# Altium footprint library port.PcbLib: 36 footprints (part 2 of 3)
Each footprint in its own frame and in the unit in brackets; x right, y up, seen from the top. Pads: shape width x height; smd on the part's side, far side on the other; paste and mask are expansions set on the pad; w line width, h text height; cw(c..) or ccw(c..) is an arc to the next point about the centre after c.
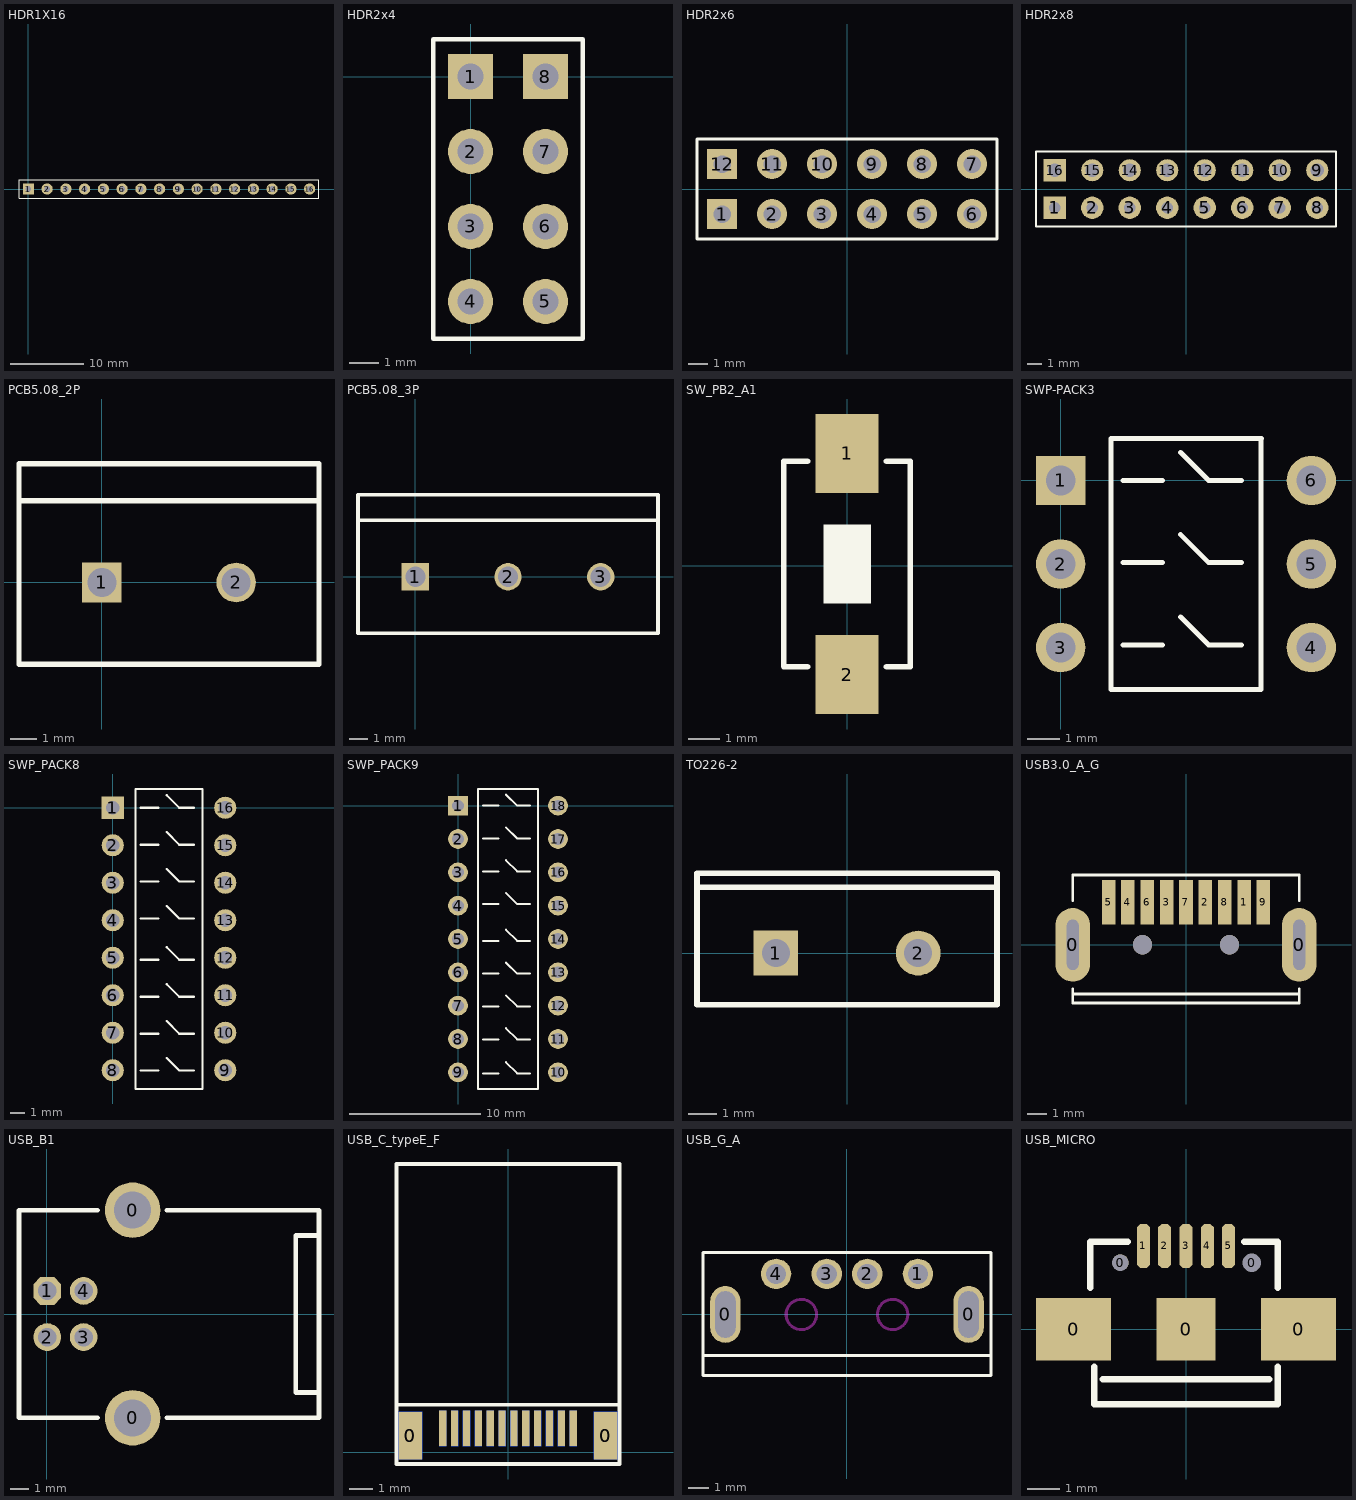
[diagram p1: the footprints below, top view; thin cyan lines are the x and y axes]

## HDR1X16 [mil]
pads (16):
  rect 60x60 hole 30: 1(0,0)
  round 60 hole 30: 2(100,0) 3(200,0) 4(300,0) 5(400,0) 6(500,0) 7(600,0) 8(700,0) 9(800,0) 10(900,0) 11(1000,0) 12(1100,0) 13(1200,0) 14(1300,0) 15(1400,0) 16(1500,0)
Top Overlay:
  lines w6: -50,-50 1550,-50 1550,50 -50,50 -50,-50

## HDR2x4 [mil] "排针单排4针 双列"
pads (8):
  rect 60x60 hole 35: 1(0,0) 8(100,0)
  round 60 hole 35: 2(0,-100) 3(0,-200) 4(0,-300) 5(100,-300) 6(100,-200) 7(100,-100)
Top Overlay:
  lines w6: -50,-350 150,-350 150,50 -50,50 -50,-350

## HDR2x6 [mil] "排针单排6针 双列"
pads (12):
  rect 60x60 hole 35: 1(-250,-50) 12(-250,50)
  round 60 hole 35: 2(-150,-50) 3(-50,-50) 4(50,-50) 5(150,-50) 6(250,-50) 7(250,50) 8(150,50) 9(50,50) 10(-50,50) 11(-150,50)
Top Overlay:
  lines w6: -300,-100 300,-100 300,100 -300,100 -300,-100

## HDR2x8 [mm] "排针单排8针 双列"
pads (16):
  rect 1.524x1.524 hole 0.762: 1(-8.89,-1.27)
  round 1.524 hole 0.762: 2(-6.35,-1.27) 3(-3.81,-1.27) 4(-1.27,-1.27) 5(1.27,-1.27) 6(3.81,-1.27) 7(6.35,-1.27) 8(8.89,-1.27)
  round 1.5 hole 0.9: 9(8.89,1.27) 10(6.35,1.27) 11(3.81,1.27) 12(1.27,1.27) 13(-1.27,1.27) 14(-3.81,1.27) 15(-6.35,1.27)
  rect 1.5x1.5 hole 0.9: 16(-8.89,1.27)
Top Overlay:
  lines w0.152: -10.16,-2.54 -10.16,2.54 10.16,2.54 10.16,-2.54 -10.16,-2.54

## PCB5.08_2P [mm] "Connector; Header; 2 Position"
height 10
pads (2):
  rect 1.5x1.5 hole 1.1: 1(0,0)
  round 1.5 hole 1.1: 2(5.08,0)
Top Overlay:
  lines w0.2: -3.14,3.1 8.22,3.1 ; -3.14,-3.1 8.22,-3.1 8.22,4.5 -3.14,4.5 -3.14,-3.1

## PCB5.08_3P [mm] "Connector; Header; 3 Position"
height 10
pads (3):
  rect 1.5x1.5 hole 1.1: 1(0,0)
  round 1.5 hole 1.1: 2(5.08,0) 3(10.16,0)
Top Overlay:
  lines w0.2: -3.14,3.1 13.3,3.1 ; -3.14,-3.1 -3.14,4.5 13.3,4.5 13.3,-3.1 -3.14,-3.1

## SW_PB2_A1 [mm]
pads (2):
  rect 2x2.5 smd: 1(0,3.556) 2(0,-3.444)
Top Overlay:
  region: -0.747,1.309 -0.747,-1.191 0.753,-1.191 0.753,1.309
  lines w0.178: -1.25,-3.194 -2,-3.19 -2,3.306 -1.25,3.306 ; 1.25,-3.194 2,-3.194 2,3.306 1.25,3.306
3D body: height 2.5, standoff 0, extent -1.933,-3.945 1.917,3.945

## SWP-PACK3 [mm]
pads (6):
  rect 1.5x1.5 hole 0.9: 1(0,0)
  round 1.5 hole 0.9: 2(0,-2.54) 3(0,-5.08) 4(7.62,-5.08) 5(7.62,-2.54) 6(7.62,0)
Top Overlay:
  lines w0.152: 1.9,-5 3.1,-5 ; 1.9,-2.5 3.1,-2.5 ; 1.9,0 3.1,0 ; 3.65,-4.15 4.5,-5 5.5,-5 ; 3.65,-1.65 4.5,-2.5 5.5,-2.5 ; 3.65,0.85 4.5,0 5.5,0 ; 6.083,1.27 6.083,-6.35 1.537,-6.35 1.537,1.27 6.1,1.27

## SWP_PACK8 [mm]
pads (16):
  rect 1.5x1.5 hole 0.9: 1(0,0)
  round 1.5 hole 0.9: 2(0,-2.54) 3(0,-5.08) 4(0,-7.62) 5(0,-10.16) 6(0,-12.7) 7(0,-15.24) 8(0,-17.78) 9(7.62,-17.78) 10(7.62,-15.24) 11(7.62,-12.7) 12(7.62,-10.16) 13(7.62,-7.62) 14(7.62,-5.08) 15(7.62,-2.54) 16(7.62,0)
Top Overlay:
  lines w0.152: 1.9,-17.8 3.1,-17.8 ; 1.9,-15.3 3.1,-15.3 ; 1.9,-12.8 3.1,-12.8 ; 1.9,-10.3 3.1,-10.3 ; 1.9,-7.5 3.1,-7.5 ; 1.9,-5 3.1,-5 ; 1.9,-2.5 3.1,-2.5 ; 1.9,0 3.1,0 ; 3.65,-16.95 4.5,-17.8 5.5,-17.8 ; 3.65,-14.45 4.5,-15.3 5.5,-15.3 ; 3.65,-11.95 4.5,-12.8 5.5,-12.8 ; 3.65,-9.45 4.5,-10.3 5.5,-10.3 ; 3.65,-6.65 4.5,-7.5 5.5,-7.5 ; 3.65,-4.15 4.5,-5 5.5,-5 ; 3.65,-1.65 4.5,-2.5 5.5,-2.5 ; 3.65,0.85 4.5,0 5.5,0 ; 1.537,-19.05 1.537,1.27 6.083,1.27 6.083,-19.05 1.537,-19.05

## SWP_PACK9 [mm]
pads (18):
  rect 1.5x1.5 hole 0.9: 1(0,0)
  round 1.5 hole 0.9: 2(0,-2.54) 3(0,-5.08) 4(0,-7.62) 5(0,-10.16) 6(0,-12.7) 7(0,-15.24) 8(0,-17.78) 9(0,-20.32) 10(7.62,-20.32) 11(7.62,-17.78) 12(7.62,-15.24) 13(7.62,-12.7) 14(7.62,-10.16) 15(7.62,-7.62) 16(7.62,-5.08) 17(7.62,-2.54) 18(7.62,0)
Top Overlay:
  lines w0.152: 1.9,-20.4 3.1,-20.4 ; 1.9,-17.8 3.1,-17.8 ; 1.9,-15.3 3.1,-15.3 ; 1.9,-12.8 3.1,-12.8 ; 1.9,-10.3 3.1,-10.3 ; 1.9,-7.5 3.1,-7.5 ; 1.9,-5 3.1,-5 ; 1.9,-2.5 3.1,-2.5 ; 1.9,0 3.1,0 ; 3.65,-19.55 4.5,-20.4 5.5,-20.4 ; 3.65,-16.95 4.5,-17.8 5.5,-17.8 ; 3.65,-14.45 4.5,-15.3 5.5,-15.3 ; 3.65,-11.95 4.5,-12.8 5.5,-12.8 ; 3.65,-9.45 4.5,-10.3 5.5,-10.3 ; 3.65,-6.65 4.5,-7.5 5.5,-7.5 ; 3.65,-4.15 4.5,-5 5.5,-5 ; 3.65,-1.65 4.5,-2.5 5.5,-2.5 ; 3.65,0.85 4.5,0 5.5,0 ; 1.537,-21.59 6.083,-21.59 6.083,1.27 1.537,1.27 1.537,-21.59

## TO226-2 [mm] "2 In-Line Leads; Pitch 2.54 mm"
height 19.4
pads (2):
  rect 1.6x1.6 hole 1: 1(-2.54,0)
  round 1.6 hole 1: 2(2.54,0)
Top Overlay:
  lines w0.2: -5.35,2.35 5.35,2.35 ; -5.35,-1.85 5.35,-1.85 5.35,2.85 -5.35,2.85 -5.35,-1.85

## USB3.0_A_G [mm] "USB3.0A公头"
height 5
pads (11):
  oval 1.8x3.8 hole 0.6 slot 2.6 at 90 deg: 0(-5.85,0) 0(5.85,0)
  rect 0.7x2.3 smd: 1(3,2.2) 2(1,2.2) 3(-1,2.2) 4(-3,2.2) 5(-4,2.2) 6(-2,2.2) 7(0,2.2) 8(2,2.2) 9(4,2.2)
via -2.25,0 diameter 1 hole 1
via 2.25,0 diameter 1 hole 1
Top Overlay:
  lines w0.152: -5.85,-2.54 5.842,-2.54 ; -5.85,-2.286 -5.85,-3 5.85,-3 5.85,-2.286 ; -5.85,2.286 -5.85,3.6 5.85,3.6 ; 5.85,2.286 5.85,3.556

## USB_B1 [mil] "USB方孔"
height 314.96
pads (6):
  round 120 hole 80: 0(186.3,-225) 0(186.3,225)
  oct 60x60 hole 40: 1(1.26,50)
  round 60 hole 40: 2(1.26,-50) 3(80,-50) 4(80,50)
Top Overlay:
  lines w10: 110,-225 -60,-225 -60,225 110,225 ; 260,-225 590,-225 590,225 260,225 ; 590,-170 540,-170 540,170 590,170

## USB_C_typeE_F [mm] "USBtypeC公头"
pads (28):
  rect 1x2 smd far side: 0(-4.12,0.7) 0(4.12,0.7)
  rect 1x2 smd: 0(-4.12,0.7) 0(4.12,0.7)
  rect 0.3x1.5 smd far side: A1(-2.75,1) A2(-2.25,1) A3(-1.75,1) A4(-1.25,1) A5(-0.75,1) A6(-0.25,1) A7(0.25,1) A8(0.75,1) A9(1.25,1) A10(1.75,1) A11(2.25,1) A12(2.75,1)
  rect 0.3x1.5 smd: B1(2.75,1) B2(2.25,1) B3(1.75,1) B4(1.25,1) B5(0.75,1) B6(0.25,1) B7(-0.25,1) B8(-0.75,1) B9(-1.25,1) B10(-1.75,1) B11(-2.25,1) B12(-2.75,1)
Top Overlay:
  lines w0.152: -4.7,2 4.7,2 ; -4.7,-0.5 4.7,-0.5 4.7,12.15 -4.7,12.15 -4.7,-0.5

## USB_G_A [mm] "USB2.0公头直插"
pads (6):
  oval 1.5x2.8 hole 1 slot 2.3 at 90 deg: 0(-6,0) 0(6,0)
  round 1.5 hole 1: 1(3.5,2) 2(1,2) 3(-1,2) 4(-3.5,2)
Top Overlay:
  lines w0.152: -7.112,-2.032 7.112,-2.032 ; -7.112,-3 -7.112,3.048 7.112,3.048 7.112,-3 -7.112,-3
Keep-Out Layer:
  circle w0.152: c2.25,0 r0.75
  circle w0.152: c-2.25,0 r0.75

## USB_MICRO [mm] "USB方孔"
height 8
pads (10):
  rect 2.286x1.9 smd: 0(-3.429,0) 0(3.429,0)
  round 0.5 hole 0.5: 0(-2,2.032)
  rect 1.8x1.9 smd: 0(0,0)
  round 0.5 hole 0.56: 0(2,2.032)
  oct 0.4x1.35 smd: 1(-1.3,2.54) 2(-0.65,2.54) 3(0,2.54) 4(0.65,2.54) 5(1.3,2.54)
Top Overlay:
  lines w0.2: -2.921,1.27 -2.921,2.667 -1.778,2.667 ; -2.794,-1.143 -2.794,-2.286 2.794,-2.286 2.794,-1.143 ; -2.54,-1.524 2.54,-1.524 ; 1.778,2.667 2.794,2.667 2.794,1.27